# EAGLE library part XC7A100TFGG484 (library Xilinx)
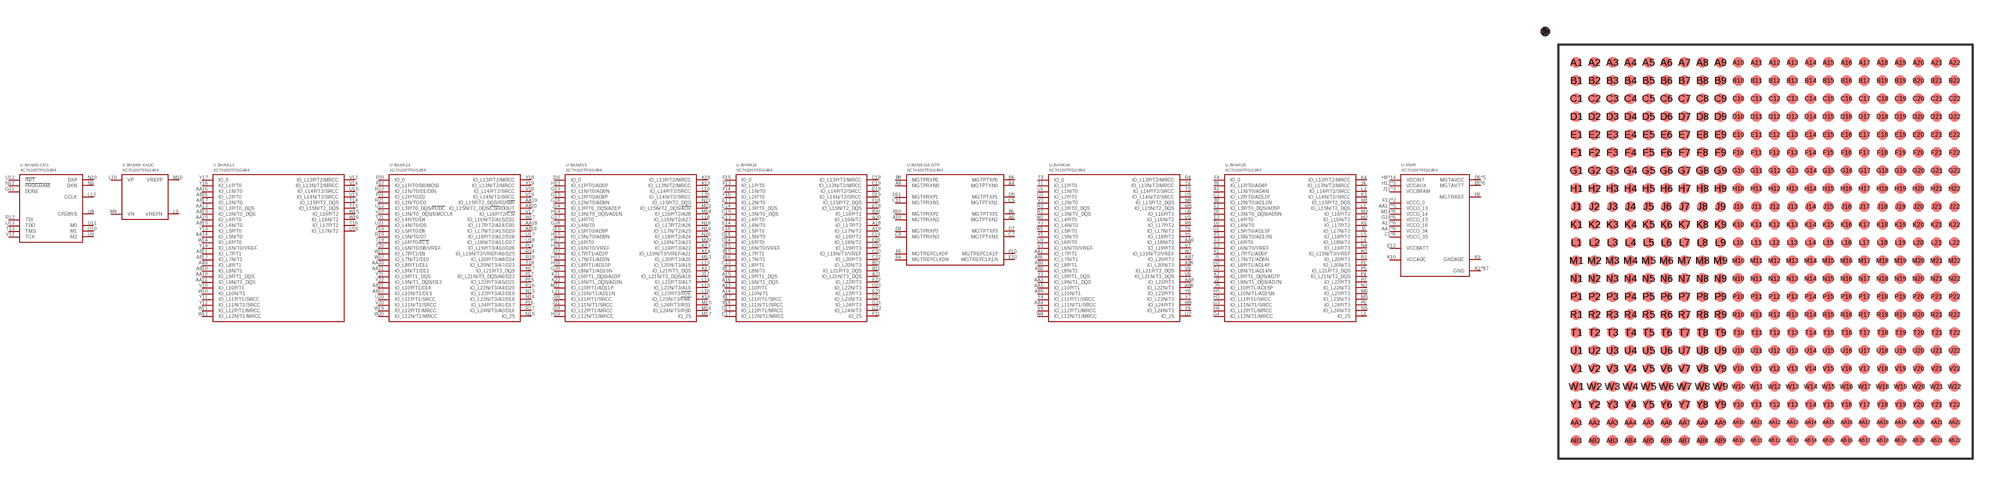
[diagram p1: symbol with the pads of FGG484; footprint FGG484]

Designator prefix U; gates .BANK0-CFG=XC7A100TFGG484-BANK0-CFG .BANK0-XADC=XC7A100TFGG484-BANK0-XADC .BANK13=XC7A100TFGG484-BANK13 .BANK14=XC7A100TFGG484-BANK14 .BANK15=XC7A100TFGG484-BANK15 .BANK16=XC7A100TFGG484-BANK16 .BANK216-GTP=XC7A100TFGG484-BANK216-GTP .BANK34=XC7A100TFGG484-BANK34 .BANK35=XC7A100TFGG484-BANK35 .PWR=XC7A100TFGG484-PWR

## XC7A100TFGG484  [FGG484]
A1  .BANK35:IO_L1N/T0/AD4N
A2  .PWR:GND
A3  .PWR:GND
A4  .BANK216-GTP:MGTPTXN0
A5  .PWR:GND
A6  .BANK216-GTP:MGTPTXN2
A7  .PWR:GND
A8  .BANK216-GTP:MGTPRXN0
A9  .PWR:GND
A10  .BANK216-GTP:MGTPRXN2
A11  .PWR:GND
A12  .PWR:GND
A13  .BANK16:IO_L10P/T1
A14  .BANK16:IO_L10N/T1
A15  .BANK16:IO_L9P/T1_DQS
A16  .BANK16:IO_L9N/T1_DQS
A17  .PWR:VCCO_16
A18  .BANK16:IO_L17P/T2
A19  .BANK16:IO_L17N/T2
A20  .BANK16:IO_L16N/T2
A21  .BANK16:IO_L21N/T3_DQS
A22  .PWR:GND
AA1  .BANK34:IO_L7P/T1
AA2  .PWR:GND
AA3  .BANK34:IO_L9N/T1_DQS
AA4  .BANK34:IO_L11N/T1/SRCC
AA5  .BANK34:IO_L10P/T1
AA6  .BANK34:IO_L18N/T2
AA7  .PWR:VCCO_34
AA8  .BANK34:IO_L22P/T3
AA9  .BANK13:IO_L8P/T1
AA10  .BANK13:IO_L9P/T1_DQS
AA11  .BANK13:IO_L9N/T1_DQS
AA12  .PWR:GND
AA13  .BANK13:IO_L3P/T0_DQS
AA14  .BANK13:IO_L5N/T0
AA15  .BANK13:IO_L4P/T0
AA16  .BANK13:IO_L1N/T0
AA17  .PWR:VCCO_13
AA18  .BANK14:IO_L17P/T2/A14/D30
AA19  .BANK14:IO_L15P/T2_DQS/RD/!WR
AA20  .BANK14:IO_L8P/T1/D11
AA21  .BANK14:IO_L8N/T1/D12
AA22  .PWR:GND
AB1  .BANK34:IO_L7N/T1
AB2  .BANK34:IO_L8N/T1
AB3  .BANK34:IO_L8P/T1
AB4  .PWR:VCCO_34
AB5  .BANK34:IO_L10N/T1
AB6  .BANK34:IO_L20N/T3
AB7  .BANK34:IO_L20P/T3
AB8  .BANK34:IO_L22N/T3
AB9  .PWR:GND
AB10  .BANK13:IO_L8N/T1
AB11  .BANK13:IO_L7P/T1
AB12  .BANK13:IO_L7N/T1
AB13  .BANK13:IO_L3N/T0_DQS
AB14  .PWR:VCCO_13
AB15  .BANK13:IO_L4N/T0
AB16  .BANK13:IO_L2P/T0
AB17  .BANK13:IO_L2N/T0
AB18  .BANK14:IO_L17N/T2/A13/D29
AB19  .PWR:GND
AB20  .BANK14:IO_L15N/T2_DQS/!CSO!/DOUT
AB21  .BANK14:IO_L10P/T1/D14
AB22  .BANK14:IO_L10N/T1/D15
B1  .BANK35:IO_L1P/T0/AD4P
B2  .BANK35:IO_L2N/T0/AD12N
B3  .PWR:GND
B4  .BANK216-GTP:MGTPTXP0
B5  .PWR:MGTAVTT
B6  .BANK216-GTP:MGTPTXP2
B7  .PWR:MGTAVTT
B8  .BANK216-GTP:MGTPRXP0
B9  .PWR:MGTAVTT
B10  .BANK216-GTP:MGTPRXP2
B11  .PWR:MGTAVTT
B12  .PWR:GND
B13  .BANK16:IO_L8N/T1
B14  .PWR:VCCO_16
B15  .BANK16:IO_L7P/T1
B16  .BANK16:IO_L7N/T1
B17  .BANK16:IO_L11P/T1/SRCC
B18  .BANK16:IO_L11N/T1/SRCC
B19  .PWR:GND
B20  .BANK16:IO_L16P/T2
B21  .BANK16:IO_L21P/T3_DQS
B22  .BANK16:IO_L20N/T3
C1  .PWR:VCCO_35
C2  .BANK35:IO_L2P/T0/AD12P
C3  .PWR:GND
C4  .PWR:MGTAVTT
C5  .BANK216-GTP:MGTPTXN1
C6  .PWR:GND
C7  .BANK216-GTP:MGTPTXN3
C8  .PWR:MGTAVTT
C9  .BANK216-GTP:MGTPRXN3
C10  .PWR:GND
C11  .BANK216-GTP:MGTPRXN1
C12  .PWR:GND
C13  .BANK16:IO_L8P/T1
C14  .BANK16:IO_L3P/T0_DQS
C15  .BANK16:IO_L3N/T0_DQS
C16  .PWR:GND
C17  .BANK16:IO_L12N/T1/MRCC
C18  .BANK16:IO_L13P/T2/MRCC
C19  .BANK16:IO_L13N/T2/MRCC
C20  .BANK16:IO_L19N/T3/VREF
C21  .PWR:VCCO_16
C22  .BANK16:IO_L20P/T3
D1  .BANK35:IO_L3N/T0_DQS/AD5N
D2  .BANK35:IO_L4N/T0
D3  .PWR:GND
D4  .PWR:GND
D5  .BANK216-GTP:MGTPTXP1
D6  .PWR:MGTAVCC
D7  .BANK216-GTP:MGTPTXP3
D8  .PWR:GND
D9  .BANK216-GTP:MGTPRXP3
D10  .PWR:MGTAVCC
D11  .BANK216-GTP:MGTPRXP1
D12  .PWR:GND
D13  .PWR:GND
D14  .BANK16:IO_L6P/T0
D15  .BANK16:IO_L6N/T0/VREF
D16  .BANK16:IO_L5N/T0
D17  .BANK16:IO_L12P/T1/MRCC
D18  .PWR:VCCO_16
D19  .BANK16:IO_L14N/T2/SRCC
D20  .BANK16:IO_L19P/T3
D21  .BANK16:IO_L23N/T3
D22  .BANK16:IO_L22N/T3
E1  .BANK35:IO_L3P/T0_DQS/AD5P
E2  .BANK35:IO_L4P/T0
E3  .BANK35:IO_L6N/T0/VREF
E4  .PWR:GND
E5  .PWR:GND
E6  .BANK216-GTP:MGTREFCLK0N
E7  .PWR:GND
E8  .PWR:MGTAVCC
E9  .PWR:GND
E10  .BANK216-GTP:MGTREFCLK1N
E11  .PWR:GND
E12  .PWR:VCCBATT
E13  .BANK16:IO_L4P/T0
E14  .BANK16:IO_L4N/T0
E15  .PWR:VCCO_16
E16  .BANK16:IO_L5P/T0
E17  .BANK16:IO_L2N/T0
E18  .BANK16:IO_L15N/T2_DQS
E19  .BANK16:IO_L14P/T2/SRCC
E20  .PWR:GND
E21  .BANK16:IO_L23P/T3
E22  .BANK16:IO_L22P/T3
F1  .BANK35:IO_L5N/T0/AD13N
F2  .PWR:VCCO_35
F3  .BANK35:IO_L6P/T0
F4  .BANK35:IO_0
F5  .PWR:GND
F6  .BANK216-GTP:MGTREFCLK0P
F7  .PWR:MGTAVCC
F8  .PWR:MGTRREF
F9  .PWR:MGTAVCC
F10  .BANK216-GTP:MGTREFCLK1P
F11  .PWR:GND
F12  .PWR:VCCO_0
F13  .BANK16:IO_L1P/T0
F14  .BANK16:IO_L1N/T0
F15  .BANK16:IO_0
F16  .BANK16:IO_L2P/T0
F17  .PWR:GND
F18  .BANK16:IO_L15P/T2_DQS
F19  .BANK16:IO_L18P/T2
F20  .BANK16:IO_L18N/T2
F21  .BANK16:IO_25
F22  .PWR:VCCO_16
G1  .BANK35:IO_L5P/T0/AD13P
G2  .BANK35:IO_L8N/T1/AD14N
G3  .BANK35:IO_L11N/T1/SRCC
G4  .BANK35:IO_L12N/T1/MRCC
G5  .PWR:GND
G6  .PWR:GND
G7  .PWR:GND
G8  .PWR:GND
G9  .PWR:GND
G10  .PWR:GND
G11  .BANK0-CFG:DONE
G12  .PWR:GND
G13  .BANK15:IO_L1N/T0/AD0N
G14  .PWR:GND
G15  .BANK15:IO_L2P/T0/AD8P
G16  .BANK15:IO_L2N/T0/AD8N
G17  .BANK15:IO_L4P/T0
G18  .BANK15:IO_L4N/T0
G19  .PWR:VCCO_15
G20  .BANK15:IO_L8N/T1/AD10N
G21  .BANK16:IO_L24P/T3
G22  .BANK16:IO_L24N/T3
H1  .PWR:GND
H2  .BANK35:IO_L8P/T1/AD14P
H3  .BANK35:IO_L11P/T1/SRCC
H4  .BANK35:IO_L12P/T1/MRCC
H5  .BANK35:IO_L10N/T1/AD15N
H6  .PWR:VCCO_35
H7  .PWR:GND
H8  .PWR:VCCINT
H9  .PWR:GND
H10  .PWR:VCCINT
H11  .PWR:GND
H12  .PWR:VCCAUX
H13  .BANK15:IO_L1P/T0/AD0P
H14  .BANK15:IO_L3N/T0_DQS/AD1N
H15  .BANK15:IO_L5N/T0/AD9N
H16  .PWR:VCCO_15
H17  .BANK15:IO_L6P/T0
H18  .BANK15:IO_L6N/T0/VREF
H19  .BANK15:IO_L12N/T1/MRCC
H20  .BANK15:IO_L8P/T1/AD10P
H21  .PWR:GND
H22  .BANK15:IO_L7N/T1/AD2N
J1  .BANK35:IO_L7N/T1/AD6N
J2  .BANK35:IO_L9N/T1_DQS/AD7N
J3  .PWR:VCCO_35
J4  .BANK35:IO_L13N/T2/MRCC
J5  .BANK35:IO_L10P/T1/AD15P
J6  .BANK35:IO_L17N/T2
J7  .PWR:VCCINT
J8  .PWR:GND
J9  .PWR:VCCINT
J10  .PWR:GND
J11  .PWR:VCCBRAM
J12  .PWR:GND
J13  .PWR:VCCO_15
J14  .BANK15:IO_L3P/T0_DQS/AD1P
J15  .BANK15:IO_L5P/T0/AD9P
J16  .BANK15:IO_0
J17  .BANK15:IO_L21N/T3_DQS/A18
J18  .PWR:GND
J19  .BANK15:IO_L12P/T1/MRCC
J20  .BANK15:IO_L11P/T1/SRCC
J21  .BANK15:IO_L11N/T1/SRCC
J22  .BANK15:IO_L7P/T1/AD2P
K1  .BANK35:IO_L7P/T1/AD6P
K2  .BANK35:IO_L9P/T1_DQS/AD7P
K3  .BANK35:IO_L14N/T2/SRCC
K4  .BANK35:IO_L13P/T2/MRCC
K5  .PWR:GND
K6  .BANK35:IO_L17P/T2
K7  .PWR:GND
K8  .PWR:VCCINT
K9  .PWR:GNDADC
K10  .PWR:VCCADC
K11  .PWR:GND
K12  .PWR:VCCAUX
K13  .BANK15:IO_L19P/T3/A22
K14  .BANK15:IO_L19N/T3/VREF/A21
K15  .PWR:GND
K16  .BANK15:IO_L23N/T3/!FWE
K17  .BANK15:IO_L21P/T3_DQS
K18  .BANK15:IO_L13P/T2/MRCC
K19  .BANK15:IO_L13N/T2/MRCC
K20  .PWR:VCCO_15
K21  .BANK15:IO_L9P/T1_DQS/AD3P
K22  .BANK15:IO_L9N/T1_DQS/AD3N
L1  .BANK35:IO_L15N/T2_DQS
L2  .PWR:GND
L3  .BANK35:IO_L14P/T2/SRCC
L4  .BANK35:IO_L18N/T2
L5  .BANK35:IO_L18P/T2
L6  .BANK35:IO_25
L7  .PWR:VCCINT
L8  .PWR:GND
L9  .BANK0-XADC:VREFN
L10  .BANK0-XADC:VP
L11  .PWR:VCCBRAM
L12  .BANK0-CFG:CCLK
L13  .BANK15:IO_L20N/T3/A19
L14  .BANK15:IO_L22P/T3/A17
L15  .BANK15:IO_L22N/T3/A16
L16  .BANK15:IO_L23P/T3/!FOE
L17  .PWR:VCCO_15
L18  .BANK15:IO_L16N/T2/A27
L19  .BANK15:IO_L14P/T2/SRCC
L20  .BANK15:IO_L14N/T2/SRCC
L21  .BANK15:IO_L10N/T1/AD11N
L22  .PWR:GND
M1  .BANK35:IO_L15P/T2_DQS
M2  .BANK35:IO_L16N/T2
M3  .BANK35:IO_L16P/T2
M4  .PWR:VCCO_35
M5  .BANK35:IO_L23N/T3
M6  .BANK35:IO_L23P/T3
M7  .PWR:GND
M8  .PWR:VCCINT
M9  .BANK0-XADC:VN
M10  .BANK0-XADC:VREFP
M11  .PWR:GND
M12  .PWR:VCCAUX
M13  .BANK15:IO_L20P/T3/A20
M14  .PWR:VCCO_14
M15  .BANK15:IO_L24P/T3/RS1
M16  .BANK15:IO_L24N/T3/RS0
M17  .BANK15:IO_25
M18  .BANK15:IO_L16P/T2/A28
M19  .PWR:GND
M20  .BANK15:IO_L18N/T2/A23
M21  .BANK15:IO_L10P/T1/AD11P
M22  .BANK15:IO_L15N/T2_DQS/!ADV
N1  .PWR:VCCO_35
N2  .BANK35:IO_L22N/T3
N3  .BANK35:IO_L19N/T3/VREF
N4  .BANK35:IO_L19P/T3
N5  .BANK35:IO_L24N/T3
N6  .PWR:GND
N7  .PWR:VCCINT
N8  .PWR:GND
N9  .BANK0-CFG:DXN
N10  .BANK0-CFG:DXP
N11  .PWR:VCCBRAM
N12  .BANK0-CFG:!PROGRAM
N13  .BANK14:IO_L23P/T3/A3/D19
N14  .BANK14:IO_L23N/T3/A2/D18
N15  .BANK14:IO_25
N16  .PWR:GND
N17  .BANK14:IO_L21P/T3_DQS
N18  .BANK15:IO_L17P/T2/A26
N19  .BANK15:IO_L17N/T2/A25
N20  .BANK15:IO_L18P/T2/A24
N21  .PWR:VCCO_15
N22  .BANK15:IO_L15P/T2_DQS
P1  .BANK35:IO_L20N/T3
P2  .BANK35:IO_L22P/T3
P3  .PWR:GND
P4  .BANK35:IO_L21N/T3_DQS
P5  .BANK35:IO_L21P/T3_DQS
P6  .BANK35:IO_L24P/T3
P7  .PWR:GND
P8  .PWR:VCCINT
P9  .PWR:GND
P10  .PWR:VCCINT
P11  .PWR:GND
P12  .PWR:VCCAUX
P13  .PWR:GND
P14  .BANK14:IO_L19P/T3/A10/D26
P15  .BANK14:IO_L22P/T3/A5/D21
P16  .BANK14:IO_L24P/T3/A1/D17
P17  .BANK14:IO_L21N/T3_DQS/A6/D22
P18  .PWR:VCCO_14
P19  .BANK14:IO_L5P/T0/D6
P20  .BANK14:IO_0
P21  .BANK14:IO_L2P/T0/D2
P22  .BANK14:IO_L1P/T0/D0/MOSI
R1  .BANK35:IO_L20P/T3
R2  .BANK34:IO_L3N/T0_DQS
R3  .BANK34:IO_L3P/T0_DQS
R4  .BANK34:IO_L13P/T2/MRCC
R5  .PWR:VCCO_34
R6  .BANK34:IO_L17P/T2
R7  .PWR:VCCINT
R8  .PWR:GND
R9  .PWR:VCCINT
R10  .PWR:GND
R11  .PWR:VCCAUX
R12  .PWR:GND
R13  .BANK0-CFG:TDI
R14  .BANK14:IO_L19N/T3/VREF/A9/D25
R15  .PWR:VCCO_14
R16  .BANK14:IO_L22N/T3/A4/D20
R17  .BANK14:IO_L24N/T3/A0/D16
R18  .BANK14:IO_L20P/T3/A8/D24
R19  .BANK14:IO_L5N/T0/D7
R20  .PWR:GND
R21  .BANK14:IO_L2N/T0/D3
R22  .BANK14:IO_L1N/T0/D1/DIN
T1  .BANK34:IO_L1P/T0
T2  .PWR:VCCO_34
T3  .BANK34:IO_0
T4  .BANK34:IO_L13N/T2/MRCC
T5  .BANK34:IO_L14P/T2/SRCC
T6  .BANK34:IO_L17N/T2
T7  .PWR:GND
T8  .PWR:VCCINT
T9  .PWR:GND
T10  .PWR:VCCINT
T11  .PWR:GND
T12  .PWR:VCCO_0
T13  .BANK0-CFG:TMS
T14  .BANK13:IO_L15P/T2_DQS
T15  .BANK13:IO_L15N/T2_DQS
T16  .BANK13:IO_L17P/T2
T17  .PWR:GND
T18  .BANK14:IO_L20N/T3/A7/D23
T19  .BANK14:IO_L6P/T0/!FCS
T20  .BANK14:IO_L6N/T0/D8/VREF
T21  .BANK14:IO_L4P/T0/D4
T22  .PWR:VCCO_14
U1  .BANK34:IO_L1N/T0
U2  .BANK34:IO_L2P/T0
U3  .BANK34:IO_L6P/T0
U4  .PWR:GND
U5  .BANK34:IO_L14N/T2/SRCC
U6  .BANK34:IO_L16P/T2
U7  .BANK34:IO_25
U8  .BANK0-CFG:CFGBVS
U9  .BANK0-CFG:M2
U10  .BANK0-CFG:M1
U11  .BANK0-CFG:M0
U12  .BANK0-CFG:!INIT
U13  .BANK0-CFG:TDO
U14  .PWR:GND
U15  .BANK13:IO_L14P/T2/SRCC
U16  .BANK13:IO_L17N/T2
U17  .BANK14:IO_L18P/T2/A12/D28
U18  .BANK14:IO_L18N/T2/A11/D27
U19  .PWR:VCCO_14
U20  .BANK14:IO_L11P/T1/SRCC
U21  .BANK14:IO_L4N/T0/D5
U22  .BANK14:IO_L3P/T0_DQS/!PUDC
V1  .PWR:GND
V2  .BANK34:IO_L2N/T0
V3  .BANK34:IO_L6N/T0/VREF
V4  .BANK34:IO_L12P/T1/MRCC
V5  .BANK34:IO_L16N/T2
V6  .PWR:VCCO_34
V7  .BANK34:IO_L19P/T3
V8  .BANK34:IO_L21N/T3_DQS
V9  .BANK34:IO_L21P/T3_DQS
V10  .BANK13:IO_L10P/T1
V11  .PWR:GND
V12  .BANK0-CFG:TCK
V13  .BANK13:IO_L13P/T2/MRCC
V14  .BANK13:IO_L13N/T2/MRCC
V15  .BANK13:IO_L14N/T2/SRCC
V16  .PWR:VCCO_13
V17  .BANK14:IO_L16P/T2/!CSI
V18  .BANK14:IO_L14P/T2/SRCC
V19  .BANK14:IO_L14N/T2/SRCC
V20  .BANK14:IO_L11N/T1/SRCC
V21  .PWR:GND
V22  .BANK14:IO_L3N/T0_DQS/EMCCLK
W1  .BANK34:IO_L5P/T0
W2  .BANK34:IO_L4P/T0
W3  .PWR:VCCO_34
W4  .BANK34:IO_L12N/T1/MRCC
W5  .BANK34:IO_L15N/T2_DQS
W6  .BANK34:IO_L15P/T2_DQS
W7  .BANK34:IO_L19N/T3/VREF
W8  .PWR:GND
W9  .BANK34:IO_L24P/T3
W10  .BANK13:IO_L10N/T1
W11  .BANK13:IO_L12P/T1/MRCC
W12  .BANK13:IO_L12N/T1/MRCC
W13  .PWR:VCCO_13
W14  .BANK13:IO_L6P/T0
W15  .BANK13:IO_L16P/T2
W16  .BANK13:IO_L16N/T2
W17  .BANK14:IO_L16N/T2/A15/D31
W18  .PWR:GND
W19  .BANK14:IO_L12P/T1/MRCC
W20  .BANK14:IO_L12N/T1/MRCC
W21  .BANK14:IO_L7P/T1/D9
W22  .BANK14:IO_L7N/T1/D10
Y1  .BANK34:IO_L5N/T0
Y2  .BANK34:IO_L4N/T0
Y3  .BANK34:IO_L9P/T1_DQS
Y4  .BANK34:IO_L11P/T1/SRCC
Y5  .PWR:GND
Y6  .BANK34:IO_L18P/T2
Y7  .BANK34:IO_L23N/T3
Y8  .BANK34:IO_L23P/T3
Y9  .BANK34:IO_L24N/T3
Y10  .PWR:VCCO_13
Y11  .BANK13:IO_L11P/T1/SRCC
Y12  .BANK13:IO_L11N/T1/SRCC
Y13  .BANK13:IO_L5P/T0
Y14  .BANK13:IO_L6N/T0/VREF
Y15  .PWR:GND
Y16  .BANK13:IO_L1P/T0
Y17  .BANK13:IO_0
Y18  .BANK14:IO_L13P/T2/MRCC
Y19  .BANK14:IO_L13N/T2/MRCC
Y20  .PWR:VCCO_14
Y21  .BANK14:IO_L9P/T1_DQS
Y22  .BANK14:IO_L9N/T1_DQS/D13

## Footprint FGG484 (pad centres in mm)
smd 0.6 x 0.6: A1 -10.5,10.5; A2 -9.5,10.5; A3 -8.5,10.5; A4 -7.5,10.5; A5 -6.5,10.5; A6 -5.5,10.5; A7 -4.5,10.5; A8 -3.5,10.5; A9 -2.5,10.5; A10 -1.5,10.5; A11 -0.5,10.5; A12 0.5,10.5; A13 1.5,10.5; A14 2.5,10.5; A15 3.5,10.5; A16 4.5,10.5; A17 5.5,10.5; A18 6.5,10.5; A19 7.5,10.5; A20 8.5,10.5; A21 9.5,10.5; A22 10.5,10.5; AA1 -10.5,-9.5; AA2 -9.5,-9.5; AA3 -8.5,-9.5; AA4 -7.5,-9.5; AA5 -6.5,-9.5; AA6 -5.5,-9.5; AA7 -4.5,-9.5; AA8 -3.5,-9.5; AA9 -2.5,-9.5; AA10 -1.5,-9.5; AA11 -0.5,-9.5; AA12 0.5,-9.5; AA13 1.5,-9.5; AA14 2.5,-9.5; AA15 3.5,-9.5; AA16 4.5,-9.5; AA17 5.5,-9.5; AA18 6.5,-9.5; AA19 7.5,-9.5; AA20 8.5,-9.5; AA21 9.5,-9.5; AA22 10.5,-9.5; AB1 -10.5,-10.5; AB2 -9.5,-10.5; AB3 -8.5,-10.5; AB4 -7.5,-10.5; AB5 -6.5,-10.5; AB6 -5.5,-10.5; AB7 -4.5,-10.5; AB8 -3.5,-10.5; AB9 -2.5,-10.5; AB10 -1.5,-10.5; AB11 -0.5,-10.5; AB12 0.5,-10.5; AB13 1.5,-10.5; AB14 2.5,-10.5; AB15 3.5,-10.5; AB16 4.5,-10.5; AB17 5.5,-10.5; AB18 6.5,-10.5; AB19 7.5,-10.5; AB20 8.5,-10.5; AB21 9.5,-10.5; AB22 10.5,-10.5; B1 -10.5,9.5; B2 -9.5,9.5; B3 -8.5,9.5; B4 -7.5,9.5; B5 -6.5,9.5; B6 -5.5,9.5; B7 -4.5,9.5; B8 -3.5,9.5; B9 -2.5,9.5; B10 -1.5,9.5; B11 -0.5,9.5; B12 0.5,9.5; B13 1.5,9.5; B14 2.5,9.5; B15 3.5,9.5; B16 4.5,9.5; B17 5.5,9.5; B18 6.5,9.5; B19 7.5,9.5; B20 8.5,9.5; B21 9.5,9.5; B22 10.5,9.5; C1 -10.5,8.5; C2 -9.5,8.5; C3 -8.5,8.5; C4 -7.5,8.5; C5 -6.5,8.5; C6 -5.5,8.5; C7 -4.5,8.5; C8 -3.5,8.5; C9 -2.5,8.5; C10 -1.5,8.5; C11 -0.5,8.5; C12 0.5,8.5; C13 1.5,8.5; C14 2.5,8.5; C15 3.5,8.5; C16 4.5,8.5; C17 5.5,8.5; C18 6.5,8.5; C19 7.5,8.5; C20 8.5,8.5; C21 9.5,8.5; C22 10.5,8.5; D1 -10.5,7.5; D2 -9.5,7.5; D3 -8.5,7.5; D4 -7.5,7.5; D5 -6.5,7.5; D6 -5.5,7.5; D7 -4.5,7.5; D8 -3.5,7.5; D9 -2.5,7.5; D10 -1.5,7.5; D11 -0.5,7.5; D12 0.5,7.5; D13 1.5,7.5; D14 2.5,7.5; D15 3.5,7.5; D16 4.5,7.5; D17 5.5,7.5; D18 6.5,7.5; D19 7.5,7.5; D20 8.5,7.5; D21 9.5,7.5; D22 10.5,7.5; E1 -10.5,6.5; E2 -9.5,6.5; E3 -8.5,6.5; E4 -7.5,6.5; E5 -6.5,6.5; E6 -5.5,6.5; E7 -4.5,6.5; E8 -3.5,6.5; E9 -2.5,6.5; E10 -1.5,6.5; E11 -0.5,6.5; E12 0.5,6.5; E13 1.5,6.5; E14 2.5,6.5; E15 3.5,6.5; E16 4.5,6.5; E17 5.5,6.5; E18 6.5,6.5; E19 7.5,6.5; E20 8.5,6.5; E21 9.5,6.5; E22 10.5,6.5; F1 -10.5,5.5; F2 -9.5,5.5; F3 -8.5,5.5; F4 -7.5,5.5; F5 -6.5,5.5; F6 -5.5,5.5; F7 -4.5,5.5; F8 -3.5,5.5; F9 -2.5,5.5; F10 -1.5,5.5; F11 -0.5,5.5; F12 0.5,5.5; F13 1.5,5.5; F14 2.5,5.5; F15 3.5,5.5; F16 4.5,5.5; F17 5.5,5.5; F18 6.5,5.5; F19 7.5,5.5; F20 8.5,5.5; F21 9.5,5.5; F22 10.5,5.5; G1 -10.5,4.5; G2 -9.5,4.5; G3 -8.5,4.5; G4 -7.5,4.5; G5 -6.5,4.5; G6 -5.5,4.5; G7 -4.5,4.5; G8 -3.5,4.5; G9 -2.5,4.5; G10 -1.5,4.5; G11 -0.5,4.5; G12 0.5,4.5; G13 1.5,4.5; G14 2.5,4.5; G15 3.5,4.5; G16 4.5,4.5; G17 5.5,4.5; G18 6.5,4.5; G19 7.5,4.5; G20 8.5,4.5; G21 9.5,4.5; G22 10.5,4.5; H1 -10.5,3.5; H2 -9.5,3.5; H3 -8.5,3.5; H4 -7.5,3.5; H5 -6.5,3.5; H6 -5.5,3.5; H7 -4.5,3.5; H8 -3.5,3.5; H9 -2.5,3.5; H10 -1.5,3.5; H11 -0.5,3.5; H12 0.5,3.5; H13 1.5,3.5; H14 2.5,3.5; H15 3.5,3.5; H16 4.5,3.5; H17 5.5,3.5; H18 6.5,3.5; H19 7.5,3.5; H20 8.5,3.5; H21 9.5,3.5; H22 10.5,3.5; J1 -10.5,2.5; J2 -9.5,2.5; J3 -8.5,2.5; J4 -7.5,2.5; J5 -6.5,2.5; J6 -5.5,2.5; J7 -4.5,2.5; J8 -3.5,2.5; J9 -2.5,2.5; J10 -1.5,2.5; J11 -0.5,2.5; J12 0.5,2.5; J13 1.5,2.5; J14 2.5,2.5; J15 3.5,2.5; J16 4.5,2.5; J17 5.5,2.5; J18 6.5,2.5; J19 7.5,2.5; J20 8.5,2.5; J21 9.5,2.5; J22 10.5,2.5; K1 -10.5,1.5; K2 -9.5,1.5; K3 -8.5,1.5; K4 -7.5,1.5; K5 -6.5,1.5; K6 -5.5,1.5; K7 -4.5,1.5; K8 -3.5,1.5; K9 -2.5,1.5; K10 -1.5,1.5; K11 -0.5,1.5; K12 0.5,1.5; K13 1.5,1.5; K14 2.5,1.5; K15 3.5,1.5; K16 4.5,1.5; K17 5.5,1.5; K18 6.5,1.5; K19 7.5,1.5; K20 8.5,1.5; K21 9.5,1.5; K22 10.5,1.5; L1 -10.5,0.5; L2 -9.5,0.5; L3 -8.5,0.5; L4 -7.5,0.5; L5 -6.5,0.5; L6 -5.5,0.5; L7 -4.5,0.5; L8 -3.5,0.5; L9 -2.5,0.5; L10 -1.5,0.5; L11 -0.5,0.5; L12 0.5,0.5; L13 1.5,0.5; L14 2.5,0.5; L15 3.5,0.5; L16 4.5,0.5; L17 5.5,0.5; L18 6.5,0.5; L19 7.5,0.5; L20 8.5,0.5; L21 9.5,0.5; L22 10.5,0.5; M1 -10.5,-0.5; M2 -9.5,-0.5; M3 -8.5,-0.5; M4 -7.5,-0.5; M5 -6.5,-0.5; M6 -5.5,-0.5; M7 -4.5,-0.5; M8 -3.5,-0.5; M9 -2.5,-0.5; M10 -1.5,-0.5; M11 -0.5,-0.5; M12 0.5,-0.5; M13 1.5,-0.5; M14 2.5,-0.5; M15 3.5,-0.5; M16 4.5,-0.5; M17 5.5,-0.5; M18 6.5,-0.5; M19 7.5,-0.5; M20 8.5,-0.5; M21 9.5,-0.5; M22 10.5,-0.5; N1 -10.5,-1.5; N2 -9.5,-1.5; N3 -8.5,-1.5; N4 -7.5,-1.5; N5 -6.5,-1.5; N6 -5.5,-1.5; N7 -4.5,-1.5; N8 -3.5,-1.5; N9 -2.5,-1.5; N10 -1.5,-1.5; N11 -0.5,-1.5; N12 0.5,-1.5; N13 1.5,-1.5; N14 2.5,-1.5; N15 3.5,-1.5; N16 4.5,-1.5; N17 5.5,-1.5; N18 6.5,-1.5; N19 7.5,-1.5; N20 8.5,-1.5; N21 9.5,-1.5; N22 10.5,-1.5; P1 -10.5,-2.5; P2 -9.5,-2.5; P3 -8.5,-2.5; P4 -7.5,-2.5; P5 -6.5,-2.5; P6 -5.5,-2.5; P7 -4.5,-2.5; P8 -3.5,-2.5; P9 -2.5,-2.5; P10 -1.5,-2.5; P11 -0.5,-2.5; P12 0.5,-2.5; P13 1.5,-2.5; P14 2.5,-2.5; P15 3.5,-2.5; P16 4.5,-2.5; P17 5.5,-2.5; P18 6.5,-2.5; P19 7.5,-2.5; P20 8.5,-2.5; P21 9.5,-2.5; P22 10.5,-2.5; R1 -10.5,-3.5; R2 -9.5,-3.5; R3 -8.5,-3.5; R4 -7.5,-3.5; R5 -6.5,-3.5; R6 -5.5,-3.5; R7 -4.5,-3.5; R8 -3.5,-3.5; R9 -2.5,-3.5; R10 -1.5,-3.5; R11 -0.5,-3.5; R12 0.5,-3.5; R13 1.5,-3.5; R14 2.5,-3.5; R15 3.5,-3.5; R16 4.5,-3.5; R17 5.5,-3.5; R18 6.5,-3.5; R19 7.5,-3.5; R20 8.5,-3.5; R21 9.5,-3.5; R22 10.5,-3.5; T1 -10.5,-4.5; T2 -9.5,-4.5; T3 -8.5,-4.5; T4 -7.5,-4.5; T5 -6.5,-4.5; T6 -5.5,-4.5; T7 -4.5,-4.5; T8 -3.5,-4.5; T9 -2.5,-4.5; T10 -1.5,-4.5; T11 -0.5,-4.5; T12 0.5,-4.5; T13 1.5,-4.5; T14 2.5,-4.5; T15 3.5,-4.5; T16 4.5,-4.5; T17 5.5,-4.5; T18 6.5,-4.5; T19 7.5,-4.5; T20 8.5,-4.5; T21 9.5,-4.5; T22 10.5,-4.5; U1 -10.5,-5.5; U2 -9.5,-5.5; U3 -8.5,-5.5; U4 -7.5,-5.5; U5 -6.5,-5.5; U6 -5.5,-5.5; U7 -4.5,-5.5; U8 -3.5,-5.5; U9 -2.5,-5.5; U10 -1.5,-5.5; U11 -0.5,-5.5; U12 0.5,-5.5; U13 1.5,-5.5; U14 2.5,-5.5; U15 3.5,-5.5; U16 4.5,-5.5; U17 5.5,-5.5; U18 6.5,-5.5; U19 7.5,-5.5; U20 8.5,-5.5; U21 9.5,-5.5; U22 10.5,-5.5; V1 -10.5,-6.5; V2 -9.5,-6.5; V3 -8.5,-6.5; V4 -7.5,-6.5; V5 -6.5,-6.5; V6 -5.5,-6.5; V7 -4.5,-6.5; V8 -3.5,-6.5; V9 -2.5,-6.5; V10 -1.5,-6.5; V11 -0.5,-6.5; V12 0.5,-6.5; V13 1.5,-6.5; V14 2.5,-6.5; V15 3.5,-6.5; V16 4.5,-6.5; V17 5.5,-6.5; V18 6.5,-6.5; V19 7.5,-6.5; V20 8.5,-6.5; V21 9.5,-6.5; V22 10.5,-6.5; W1 -10.5,-7.5; W2 -9.5,-7.5; W3 -8.5,-7.5; W4 -7.5,-7.5; W5 -6.5,-7.5; W6 -5.5,-7.5; W7 -4.5,-7.5; W8 -3.5,-7.5; W9 -2.5,-7.5; W10 -1.5,-7.5; W11 -0.5,-7.5; W12 0.5,-7.5; W13 1.5,-7.5; W14 2.5,-7.5; W15 3.5,-7.5; W16 4.5,-7.5; W17 5.5,-7.5; W18 6.5,-7.5; W19 7.5,-7.5; W20 8.5,-7.5; W21 9.5,-7.5; W22 10.5,-7.5; Y1 -10.5,-8.5; Y2 -9.5,-8.5; Y3 -8.5,-8.5; Y4 -7.5,-8.5; Y5 -6.5,-8.5; Y6 -5.5,-8.5; Y7 -4.5,-8.5; Y8 -3.5,-8.5; Y9 -2.5,-8.5; Y10 -1.5,-8.5; Y11 -0.5,-8.5; Y12 0.5,-8.5; Y13 1.5,-8.5; Y14 2.5,-8.5; Y15 3.5,-8.5; Y16 4.5,-8.5; Y17 5.5,-8.5; Y18 6.5,-8.5; Y19 7.5,-8.5; Y20 8.5,-8.5; Y21 9.5,-8.5; Y22 10.5,-8.5